# Altium schematic symbol library ADC088S022.Schlib: 1 symbol
Pins are listed as number, name and electrical type; pins without a type are passive.

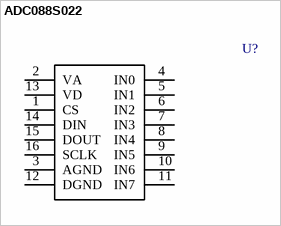
[diagram p0: symbol ADC088S022]

## ADC088S022
designator U?  (value not drawn)
pins: 1 CS, 2 VA, 3 AGND, 4 IN0, 5 IN1, 6 IN2, 7 IN3, 8 IN4, 9 IN5, 10 IN6, 11 IN7, 12 DGND, 13 VD, 14 DIN, 15 DOUT, 16 SCLK